# EAGLE library part MOLEX_0512965494 (library molex_0512965494)
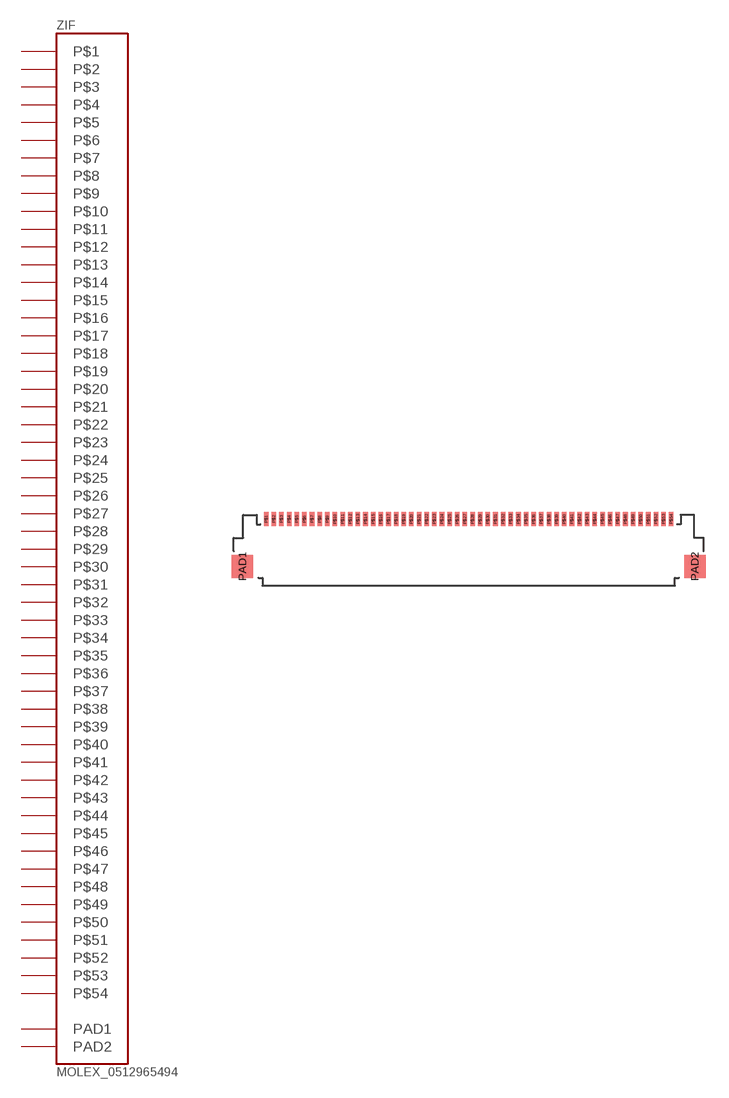
[diagram p0: symbol with the pads of 51296-5494; footprint 51296-5494]

Designator prefix ZIF

## MOLEX_0512965494  [51296-5494]
P$1  P$1
P$2  P$2
P$3  P$3
P$4  P$4
P$5  P$5
P$6  P$6
P$7  P$7
P$8  P$8
P$9  P$9
P$10  P$10
P$11  P$11
P$12  P$12
P$13  P$13
P$14  P$14
P$15  P$15
P$16  P$16
P$17  P$17
P$18  P$18
P$19  P$19
P$20  P$20
P$21  P$21
P$22  P$22
P$23  P$23
P$24  P$24
P$25  P$25
P$26  P$26
P$27  P$27
P$28  P$28
P$29  P$29
P$30  P$30
P$31  P$31
P$32  P$32
P$33  P$33
P$34  P$34
P$35  P$35
P$36  P$36
P$37  P$37
P$38  P$38
P$39  P$39
P$40  P$40
P$41  P$41
P$42  P$42
P$43  P$43
P$44  P$44
P$45  P$45
P$46  P$46
P$47  P$47
P$48  P$48
P$49  P$49
P$50  P$50
P$51  P$51
P$52  P$52
P$53  P$53
P$54  P$54
PAD1  PAD1
PAD2  PAD2

## Footprint 51296-5494 (pad centres in mm)
smd 0.3 x 0.9: P$1 0,1.1; P$2 0.5,1.1; P$3 1,1.1; P$4 1.5,1.1; P$5 2,1.1; P$6 2.5,1.1; P$7 3,1.1; P$8 3.5,1.1; P$9 4,1.1; P$10 4.5,1.1; P$11 5,1.1; P$12 5.5,1.1; P$13 6,1.1; P$14 6.5,1.1; P$15 7,1.1; P$16 7.5,1.1; P$17 8,1.1; P$18 8.5,1.1; P$19 9,1.1; P$20 9.5,1.1; P$21 10,1.1; P$22 10.5,1.1; P$23 11,1.1; P$24 11.5,1.1; P$25 12,1.1; P$26 12.5,1.1; P$27 13,1.1; P$28 13.5,1.1; P$29 14,1.1; P$30 14.5,1.1; P$31 15,1.1; P$32 15.5,1.1; P$33 16,1.1; P$34 16.5,1.1; P$35 17,1.1; P$36 17.5,1.1; P$37 18,1.1; P$38 18.5,1.1; P$39 19,1.1; P$40 19.5,1.1; P$41 20,1.1; P$42 20.5,1.1; P$43 21,1.1; P$44 21.5,1.1; P$45 22,1.1; P$46 22.5,1.1; P$47 23,1.1; P$48 23.5,1.1; P$49 24,1.1; P$50 24.5,1.1; P$51 25,1.1; P$52 25.5,1.1; P$53 26,1.1; P$54 26.5,1.1
smd 1.4 x 1.5: PAD1 -1.55,-2; PAD2 28.05,-2